# Altium schematic symbol library Motor_Driver_Sch.SchLib: 1 symbol
Pins are listed as number, name and electrical type; pins without a type are passive.

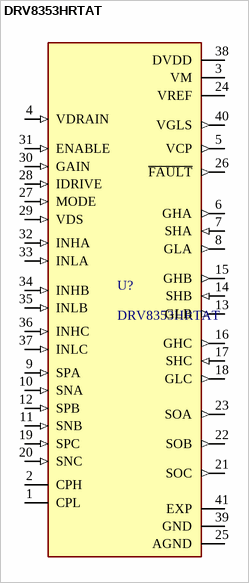
[diagram p0: symbol DRV8353HRTAT]

## DRV8353HRTAT
designator U?
102-V max 3-phase smart gate driver with current shunt amplifiers 40-WQFN -40 to 125; MF: Texas Instruments; Price: None; SnapEDA_Link: https://www.snapeda.com/parts/DRV8353HRTAT/Texas%20Instruments/view-part/3661544/?ref=snap; Check_prices: https://www.snapeda.com/parts/DRV8353HRTAT/Texas%20Instruments/view-part/3661544/?ref=eda; Purchase-URL: https://pricing.snapeda.com/search/part/DRV8353HRTAT/?ref=eda; Availability: Warning; Package: WQFN-40 Texas Instruments; MP: DRV8353HRTAT; Value: *; Supplier 1: Mouser; Manufacturer: Texas Instruments; Manufacturer Part Number: DRV8353HRTAT; RoHS: Yes; Category: Integrated Circuits (ICs); Stock 1: 181; Pricing 1: 1=5.56000, 10=4.95000, 50=4.35000, 100=3.95000, 1000=2.76000, 10000=2.66000 (USD); RoHS Compliant: Yes
footprint QFN50P600X600X80-41N
pins: 1 CPL, 2 CPH, 3 VM (power), 4 VDRAIN (in), 5 VCP (out), 6 GHA (out), 7 SHA (in), 8 GLA (out), 9 SPA (in), 10 SNA (in), 11 SNB (in), 12 SPB (in), 13 GLB (out), 14 SHB (in), 15 GHB (out), 16 GHC (out), 17 SHC (in), 18 GLC (out), 19 SPC (in), 20 SNC (in), 21 SOC (out), 22 SOB (out), 23 SOA (out), 24 VREF (power), 25 AGND (power), 26 ~{FAULT} (out), 27 MODE (in), 28 IDRIVE (in), 29 VDS (in), 30 GAIN (in), 31 ENABLE (in), 32 INHA (in), 33 INLA (in), 34 INHB (in), 35 INLB (in), 36 INHC (in), 37 INLC (in), 38 DVDD (power), 39 GND (power), 40 VGLS (out), 41 EXP (power)